# Altium footprint library PCB - LEADLESS - DFN - DFN8.PCBLIB: 1 footprints
Each footprint in its own frame and in the unit in brackets; x right, y up, seen from the top. Pads: shape width x height; smd on the part's side, far side on the other; paste and mask are expansions set on the pad; w line width, h text height; cw(c..) or ccw(c..) is an arc to the next point about the centre after c.
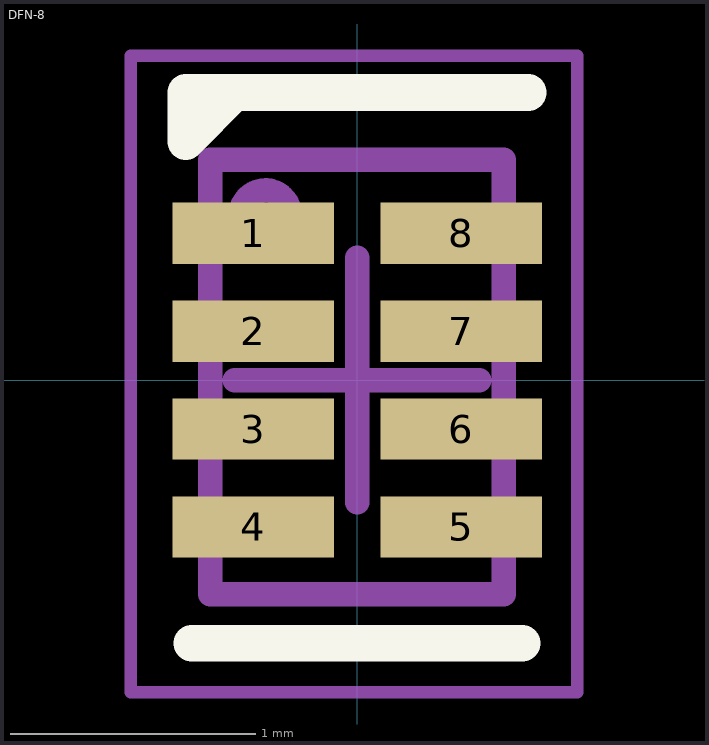
[diagram p0: the footprint, top view; thin cyan lines are the x and y axes]

## DFN-8 [mm] "DFN, 8-Leads, Body 1.8x1.2mm, Pitch 0.4mm, IPC Medium Density"
height 0.4
pads (8):
  rect 0.66x0.25 smd mask+0.05: 1(-0.425,0.6) 2(-0.425,0.2) 3(-0.425,-0.2) 4(-0.425,-0.6) 5(0.425,-0.6) 6(0.425,-0.2) 7(0.425,0.2) 8(0.425,0.6)
Top Overlay:
  lines w0.15: -0.675,-1.075 0.675,-1.075 ; -0.5,1.175 -0.7,0.975 -0.7,1.175 0.7,1.175
Mechanical 13:
  circle w0.1: c-0.375,0.675 r0.1
  lines w0.1: -0.6,-0.875 0.6,-0.875 0.6,0.9 -0.6,0.9 -0.6,-0.875
Mechanical 15:
  lines w0.05: -0.925,-1.275 -0.925,1.325 0.9,1.325 0.9,-1.275 -0.925,-1.275
  lines w0.1: -0.5,0 0.5,0 ; 0,-0.5 0,0.5
3D body: height 0.4, standoff 0, extent -0.6,-0.9 0.6,0.9